# EAGLE library part LTC6903 (library IC)
Linear Technology LTC6903(4) 1KHz to 68MHz Serial Port Programable Oscillator
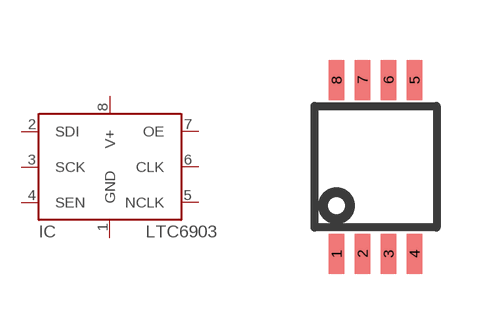
[diagram p95: symbol with the pads of MSOP-8; footprint MSOP-8]

Designator prefix IC

## LTC6903  [MSOP-8]
1  GND
2  SDI
3  SCK
4  SEN
5  NCLK
6  CLK
7  OE
8  V+

## Footprint MSOP-8 (pad centres in mm)
Linear Tech MSOP-8, National Semiconductor MM, On-Semi Micro8 (DM)
smd 0.38 x 1: 1 -0.975,-2.175; 2 -0.325,-2.175; 3 0.325,-2.175; 4 0.975,-2.175; 5 0.975,2.175; 6 0.325,2.175; 7 -0.325,2.175; 8 -0.975,2.175